# Altium schematic symbol library 39532-0002.SchLib: 1 symbol
Pins are listed as number, name and electrical type; pins without a type are passive.

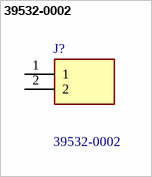
[diagram p0: symbol 39532-0002]

## 39532-0002
designator J?
Pluggable Terminal Blocks 5.08MM EURO HEADER R EADER RA OE BLK 2CKT; Manufacturer_Name: Molex; Geometry.Height: 8.7mm; Mouser Part Number: 538-39532-0002; Mouser Price/Stock: https://www.mouser.co.uk/ProductDetail/Molex/39532-0002?qs=4dAX1jW9NQomEA670G66iA%3D%3D; Manufacturer_Part_Number: 39532-0002; Datasheet Link: https://www.molex.com/content/dam/molex/molex-dot-com/products/automated/en-us/salesdrawingpdf/395/39532/395320002_sd.pdf
footprint 395320002
pins: 1, 2